# EAGLE library part 74HC125S14-13 (library FSAE Electric (Alexander Ray's conflicted copy 2016-04-02))
QUAD IN SHMITT TRIGGER
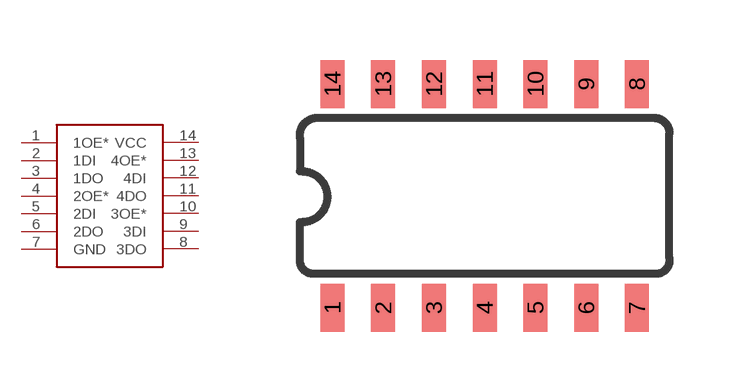
[diagram p80: symbol with the pads of SO-14; footprint SO-14]

Designator prefix -

## 74HC125S14-13 (PARTNO: 74HC125S14-13DICT-ND)  [SO-14]
1  1OE*
2  1DI
3  1DO
4  2OE*
5  2DI
6  2DO
7  GND
8  3DO
9  3DI
10  3OE*
11  4DO
12  4DI
13  4OE*
14  VCC

## Footprint SO-14 (pad centres in mm)
smd 0.6 x 1.2: 1 -3.81,-2.8; 2 -2.54,-2.8; 3 -1.27,-2.8; 4 0,-2.8; 5 1.27,-2.8; 6 2.54,-2.8; 7 3.81,-2.8; 8 3.81,2.8; 9 2.54,2.8; 10 1.27,2.8; 11 0,2.8; 12 -1.27,2.8; 13 -2.54,2.8; 14 -3.81,2.8